# Altium schematic symbol library TS861.Schlib: 1 symbol
Pins are listed as number, name and electrical type; pins without a type are passive.

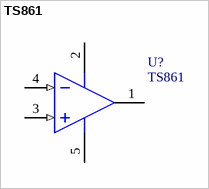
[diagram p0: symbol TS861]

## TS861
designator U?
Micropower Single CMOS Voltage Comparator
pins: 1 OUT (oc), 2 V+ (power), 3 IN+ (in), 4 IN- (in), 5 V- (power)